# EAGLE library part STMICROELECTRONICS_LSM6DSL (library Upverter Library)
iNEMO inertial module: always-on 3D accelerometer and 3D gyroscope
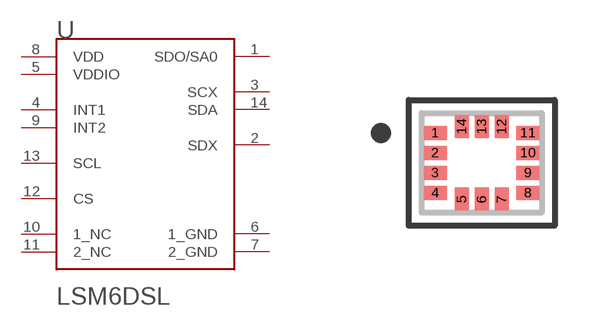
[diagram p0: symbol with the pads of STMICROELECTRONICS_LSM6DSL_0; footprint STMICROELECTRONICS_LSM6DSL_0]

Designator prefix U

## STMICROELECTRONICS_LSM6DSLSTMICROELECTRONICS_LSM6DSL_0_0 (MF: STMicroelectronics; MPN: LSM6DSL; centroid_not_specified: No; datasheet: http://www.st.com/st-web-ui/static/active/en/resource/technical/document/datasheet/DM00237456.pdf; digikey_description: IC IMU ACCEL/GYRO I2C/SPI 14LGA; digikey_part_number: 497-16705-1-ND; lead_free: yes; mfg_package_ident: http://www.st.com/content/ccc/resource/technical/document/technical_note/73/17/9c/16/dd/96/4a/01/CD00134799.pdf/files/CD00134799.pdf/jcr:content/translations/en.CD00134799.pdf; mouser_part_number: 511-LSM6DSLTR; package: LGA14; prefix: U; rohs: yes; temperature_range_high: +85°C; temperature_range_low: -40°C; voltage: 3.6V)  [STMICROELECTRONICS_LSM6DSL_0]
1  SDO/SA0
2  SDX
3  SCX
4  INT1
5  VDDIO
6  1_GND
7  2_GND
8  VDD
9  INT2
10  1_NC
11  2_NC
12  CS
13  SCL
14  SDA

## Footprint STMICROELECTRONICS_LSM6DSL_0 (pad centres in mm)
iNEMO inertial module: always-on 3D accelerometer and 3D gyroscope
smd 0.575 x 0.35: 1 -1.162,0.75; 2 -1.162,0.25; 3 -1.162,-0.25; 4 -1.162,-0.75; 8 1.162,-0.75; 9 1.162,-0.25; 10 1.162,0.25; 11 1.162,0.75
smd 0.35 x 0.575: 5 -0.5,-0.912; 6 0,-0.912; 7 0.5,-0.912; 12 0.5,0.912; 13 0,0.912; 14 -0.5,0.912